# EAGLE library part STM8L151F3 (library STM8L151F3)
STM8L151F3 8bit mcuwith the 3x3 mm size !
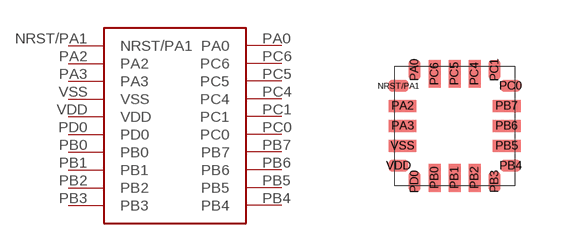
[diagram p0: symbol with the pads of UFQFPN-20; footprint UFQFPN-20]

Designator prefix -

## STM8L151F3  [UFQFPN-20]
NRST/PA1  NRST/PA1
PA0  PA0
PA2  PA2
PA3  PA3
PB0  PB0
PB1  PB1
PB2  PB2
PB3  PB3
PB4  PB4
PB5  PB5
PB6  PB6
PB7  PB7
PC0  PC0
PC1  PC1
PC4  PC4
PC5  PC5
PC6  PC6
PD0  PD0
VDD  VDD
VSS  VSS

## Footprint UFQFPN-20 (pad centres in mm)
UFQFPN20 Package 3x3mm
smd 0.5 x 0.3: NRST/PA1 -1.4,1; PB4 1.4,-1; PC0 1.4,1; VDD -1.4,-1
smd 0.3 x 0.5: PA0 -1,1.4; PB3 1,-1.4; PC1 1,1.4; PD0 -1,-1.4
smd 0.7 x 0.3: PA2 -1.3,0.5; PA3 -1.3,0; PB5 1.3,-0.5; PB6 1.3,0; PB7 1.3,0.5; VSS -1.3,-0.5
smd 0.3 x 0.7: PB0 -0.5,-1.3; PB1 0,-1.3; PB2 0.5,-1.3; PC4 0.5,1.3; PC5 0,1.3; PC6 -0.5,1.3